# EAGLE library part 93LC46B (library Semiconductors > Integrated Circuits - ICs > Memory ICs > EEPROM)
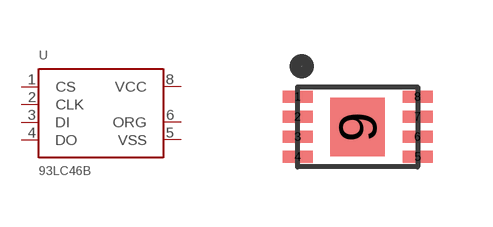
[diagram p1: symbol with the pads of TDFN-8; footprint TDFN-8]

Designator prefix U

## 93LC46B  [TDFN-8]
1  CS
2  CLK
3  DI
4  DO
5  VSS
6  ORG
8  VCC

## Footprint TDFN-8 (pad centres in mm)
smd 0.75 x 0.3: 1 -1.5,0.75; 2 -1.5,0.25; 3 -1.5,-0.25; 4 -1.5,-0.75; 5 1.5,-0.75; 6 1.5,-0.25; 7 1.5,0.25; 8 1.5,0.75
smd 1.36 x 1.46: 9 0,0